# EAGLE library part LM317LM (library #PaJa_31)
Stabilizator - s nastavitelnym napetim, proud 100mA
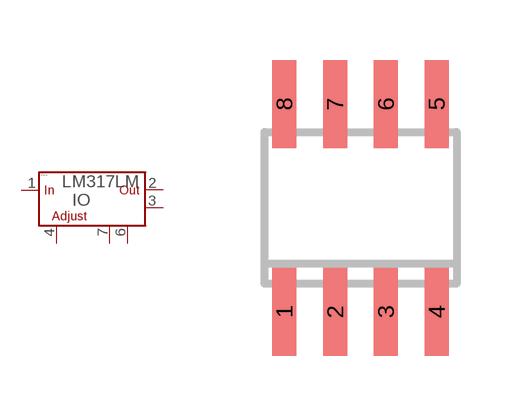
[diagram p67: symbol with the pads of SO08; footprint SO08]

Designator prefix IO

## LM317LM  [SO08]
1  IN  in
2  OUT  out
3  OUT  out
4  ADJ  in
6  OUT  out
7  OUT  out

## Footprint SO08 (pad centres in mm)
smd 0.6 x 2.2: 1 -1.905,-2.6; 2 -0.635,-2.6; 3 0.635,-2.6; 4 1.905,-2.6; 5 1.905,2.6; 6 0.635,2.6; 7 -0.635,2.6; 8 -1.905,2.6